# EAGLE library part PCM1702U (library toslink)
20-Bit Advanced Sign Magnitude DAC
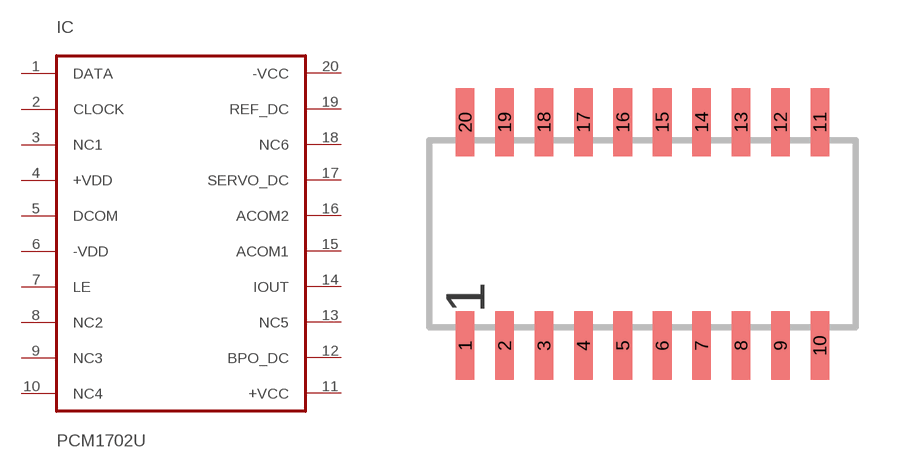
[diagram p21: symbol with the pads of SOP20; footprint SOP20]

Designator prefix IC

## PCM1702U  [SOP20]
1  DATA  in
2  CLOCK  in
3  NC1  nc
4  +VDD  pwr
5  DCOM  pwr
6  -VDD  pwr
7  LE  in
8  NC2  nc
9  NC3  nc
10  NC4  nc
11  +VCC  pwr
12  BPO_DC
13  NC5  nc
14  IOUT  out
15  ACOM1  pwr
16  ACOM2  pwr
17  SERVO_DC
18  NC6  nc
19  REF_DC
20  -VCC  pwr

## Footprint SOP20 (pad centres in mm)
SMALL OUTLINE PACKAGE
smd 0.6 x 2.2: 1 -5.715,-3.6; 2 -4.445,-3.6; 3 -3.175,-3.6; 4 -1.905,-3.6; 5 -0.635,-3.6; 6 0.635,-3.6; 7 1.905,-3.6; 8 3.175,-3.6; 9 4.445,-3.6; 10 5.715,-3.6; 11 5.715,3.6; 12 4.445,3.6; 13 3.175,3.6; 14 1.905,3.6; 15 0.635,3.6; 16 -0.635,3.6; 17 -1.905,3.6; 18 -3.175,3.6; 19 -4.445,3.6; 20 -5.715,3.6